# Altium schematic symbol library Divers.SchLib: 10 symbols
Pins are listed as number, name and electrical type; pins without a type are passive.

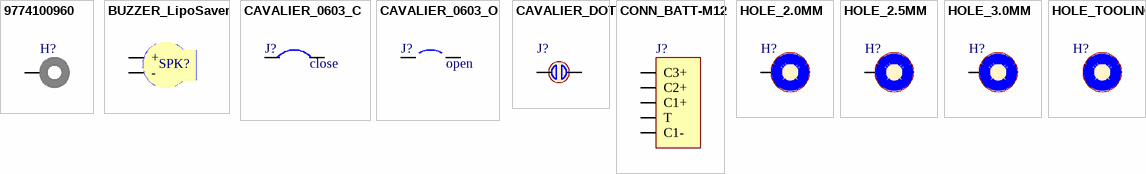
[diagram p0: symbols 9774100960 to HOLE_TOOLING]

## 9774100960
designator H?  (value not drawn)
WA-SMST SMT Steel Spacer with through hole, OD6mm, ID3.3xL10mm; Manufacturer: Wurth Elektronik; Value: 3.3x10; ComponentLink1Description: Manufacturer; ComponentLink1URL: https://www.we-online.com/catalog/en/SMST_SMD_STEEL_SPACER_3_3_INTERNAL_NON_STOP/#9774100960; ComponentLink2Description: Datasheet; ComponentLink2URL: https://www.we-online.com/catalog/datasheet/9774100960.pdf; Manufacturer Part Number: 9774100960; Supplier 1: Farnell; Supplier Part Number 1: 2497637
footprint 9774100960
pins: 1

## BUZZER_LipoSaver
designator SPK?, comment recup_SPK1  (value not drawn)
Cavalier soudure "ouvert" + empreinte dipole 0603
footprint BUZZER_LipoSaver (Buzzer extrait de la carte LipoSaver)
pins: 1 +, 2 -

## CAVALIER_0603_C
designator J?, comment close  (net tie, no BOM)
Cavalier soudure "fermé" + empreinte dipole 0603
footprint CAVALIER_0603_C (Jumper ferme)
pins: 1, 2

## CAVALIER_0603_O
designator J?, comment open  (net tie, no BOM)
Cavalier soudure "ouvert" + empreinte dipole 0603
footprint CAVALIER_0603_O (Jumper ouvert)
pins: 1, 2

## CAVALIER_DOT
designator J?, comment open  (value not drawn)  (no BOM)
Cavalier soudure "ouvert", pastille fendue 1.2mm
footprint CAVALIER (Connection personnalisé pour bord de carte)
footprint CAVALIER tranversant (Connection personnalisé pour bord de carte)
pins: 1, 2

## CONN_BATT-M12
designator J?, comment custom connector  (value not drawn)
Batterie connector for Milwaukee M12, use 2x RS 125-2006 and 3x RS 125-2000
footprint CONN_BATT-M12 (Batterie connector for Milwaukee M12, use 2x RS 125-2006 and 3x RS 125-2000)
pins: 1 C3+ (power), 2 C2+, 3 C1+, 4 T, 5 C1- (power)

## HOLE_2.0MM
designator H?, comment 2mm  (value not drawn)  (no BOM)
Trou métallisé de montage de vis M2
footprint MountingHole_2mm
pins: 1

## HOLE_2.5MM
designator H?, comment 2.5mm  (value not drawn)  (no BOM)
Trou métallisé de montage de vis M2.5
footprint MountingHole_2.5mm
pins: 1

## HOLE_3.0MM
designator H?, comment 3mm  (value not drawn)  (no BOM)
Trou métallisé de montage de vis M3
footprint MountingHole_3mm
pins: 1

## HOLE_TOOLING
designator H?, comment 1.152mm  (value not drawn)  (no BOM)
Tooling hole pour JLCPCB assembly; ComponentLink1Description: Manufacturer; ComponentLink1URL: https://support.jlcpcb.com/article/92-how-to-add-tooling-holes-for-smt-assembly-order
footprint Tooling_hole_JLCPCB